# Altium schematic symbol library 53398-0271.Schlib: 1 symbol
Pins are listed as number, name and electrical type; pins without a type are passive.

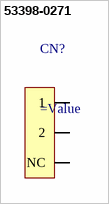
[diagram p0: symbol 53398-0271]

## 53398-0271
designator CN?
=Description
pins: 1, 2, 3 NC